# EAGLE library part MAX5035 (library untitled)
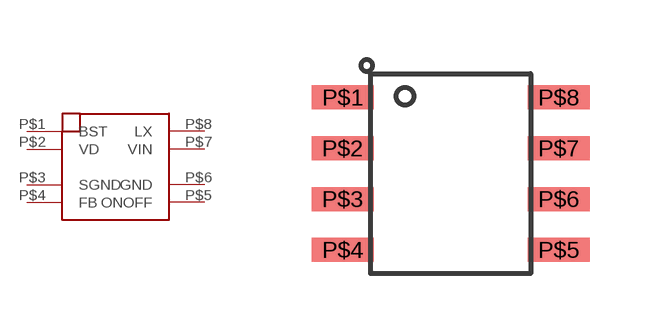
[diagram p30: symbol with the pads of SO8; footprint SO8]

Designator prefix -

## MAX5035  [SO8]
P$1  BST
P$2  VD
P$3  SGND
P$4  FB
P$5  ONOFF
P$6  GND
P$7  VIN
P$8  LX

## Footprint SO8 (pad centres in mm)
smd 1.55 x 0.6: P$1 -2.7,1.905; P$2 -2.705,0.635; P$3 -2.705,-0.635; P$4 -2.7,-1.905; P$5 2.7,-1.905; P$6 2.7,-0.635; P$7 2.7,0.635; P$8 2.7,1.905